# EAGLE library part BQ24193 (library greg)
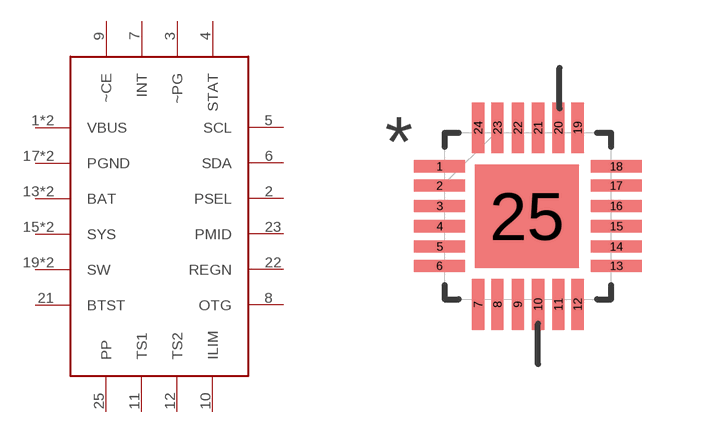
[diagram p13: symbol with the pads of QFN-400X400X100-25P; footprint QFN-400X400X100-25P]

Designator prefix -

## BQ24193  [QFN-400X400X100-25P]
1  VBUS
2  PSEL
3  ~PG
4  STAT
5  SCL
6  SDA
7  INT
8  OTG
9  ~CE
10  ILIM
11  TS1
12  TS2
13  BAT
14  BAT
15  SYS
16  SYS
17  PGND
18  PGND
19  SW
20  SW
21  BTST
22  REGN
23  PMID
24  VBUS
25  PP

## Footprint QFN-400X400X100-25P (pad centres in mm)
smd 1.27 x 0.305: 1 -2.21,1.245; 2 -2.21,0.762; 3 -2.21,0.254; 4 -2.21,-0.254; 5 -2.21,-0.762; 6 -2.21,-1.245; 13 2.21,-1.245; 14 2.21,-0.762; 15 2.21,-0.254; 16 2.21,0.254; 17 2.21,0.762; 18 2.21,1.245
smd 0.305 x 1.27: 7 -1.245,-2.21; 8 -0.762,-2.21; 9 -0.254,-2.21; 10 0.254,-2.21; 11 0.762,-2.21; 12 1.245,-2.21; 19 1.245,2.21; 20 0.762,2.21; 21 0.254,2.21; 22 -0.254,2.21; 23 -0.762,2.21; 24 -1.245,2.21
smd 2.591 x 2.591: 25 -0.025,0